# Altium schematic symbol library 2024_Terminal_Board.SCHLIB: 3 symbols
Pins are listed as number, name and electrical type; pins without a type are passive.

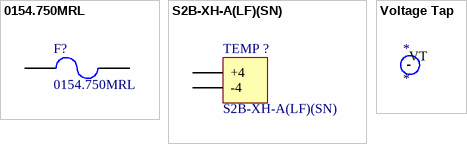
[diagram p0: symbols 0154.750MRL to Voltage Tap]

## 0154.750MRL
designator F?
FUSE BOARD MNT 750MA 125VAC/VDC; Manufacturer: Littelfuse Inc.; Part Number: 0154.750MRL; Digikey Part Number: F2576CT-ND; Digikey Link: https://www.digikey.com.au/en/products/detail/littelfuse-inc/0451-750MRL/700816
footprint 0451Series_LTF
pins: 1, 2

## S2B-XH-A(LF)(SN)
designator TEMP ?
Positions: 2; Pitch: 2.54mm; Angle: 0; Flange: No; Contact: NA; Part Number: S2B-XH-A(LF)(SN); Row Spacing: 2.54mm; Digikey Part Number: 455-2257-ND; Digikey Link: https://www.digikey.com.au/en/products/detail/jst-sales-america-inc/S2B-XH-A-LF-SN/1651055
footprint S2B-XH-A(LF)(SN)
pins: Temp +4 +4, Temp -4 -4

## Voltage Tap
designator *
footprint VoltageTap
pins: VT